# EAGLE library part 690357101472 (library WR-MM)
WR-MM Male Connector w/o Latch & w. Polarization KIND PROPERTIES: Pitch 2.54 mm Quality Class :25 Mating cycles Gender:Male MATERIAL PROPERTIES: Insulator Material:PBT Insulator Flammability Rating UL94 V-0 Insulator Color:Red Contact Material :Phosphor Bronze Contact Plating :Mat Tin over Nickel Contact Type: Stamped GENERAL PROPERTIES: Operating Temperature:-40 °C up to +105 °C Compliance Lead free / RoHS ELECTRICAL PROPERTIES: IR 1:1.5 A Working Voltage 100 V (AC) Withstanding Voltage:500 V (AC) Contact Resistance: 10 mΩ Insulation Resistance:1000 MΩ PACKAGING PROPERTIES: cULus Approval:E323964 Packaging :Tube <https://katalog.we-online.com/media/images/v2/o33157v209%20Family_WR-MM_69035710xx72.jpg> Details see: https://katalog.we-online.com/en/em/MM_1_27_MALE_CONNECTOR_W_O_LATCH_AND_WITH_POLARIZATION_69035710XX72 Updated by Yingchun,Shan 2019-10-28 2019 (C) Würth Elektronik
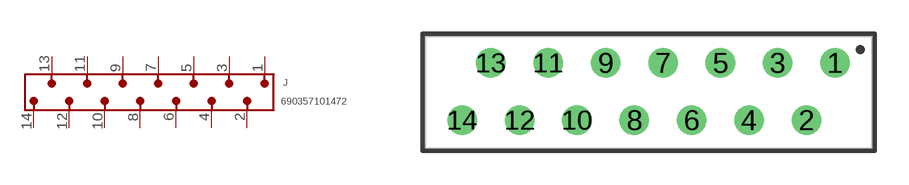
[diagram p20: symbol with the pads of 690357101472; footprint 690357101472]

Designator prefix J

## 690357101472 (DATASHEET-URL: https://www.we-online.com/catalog/datasheet/690357101472.pdf; GENDER: Male; IR: 1.5A; PACKAGING: Tube; PART-NUMBER: 690357101472; PINS: 14; PITCH: 2.54; TYPE: Straight; VALUE: 690357101472)  [690357101472]
1  1  pas
2  2  pas
3  3  pas
4  4  pas
5  5  pas
6  6  pas
7  7  pas
8  8  pas
9  9  pas
10  10  pas
11  11  pas
12  12  pas
13  13  pas
14  14  pas

## Footprint 690357101472 (pad centres in mm)
WR-MM Male Connector w/o Latch & w. Polarization, 14 Pins
drill 0.8: 1 8.255,1.315; 2 6.985,-1.225; 3 5.715,1.315; 4 4.445,-1.225; 5 3.175,1.315; 6 1.905,-1.225; 7 0.635,1.315; 8 -0.635,-1.225; 9 -1.905,1.315; 10 -3.175,-1.225; 11 -4.445,1.315; 12 -5.715,-1.225; 13 -6.985,1.315; 14 -8.255,-1.225